# Altium footprint library TSSOP16-0.65-5X4.4MM_2021-09-21.PcbLib: 1 footprints
Each footprint in its own frame and in the unit in brackets; x right, y up, seen from the top. Pads: shape width x height; smd on the part's side, far side on the other; paste and mask are expansions set on the pad; w line width, h text height; cw(c..) or ccw(c..) is an arc to the next point about the centre after c.
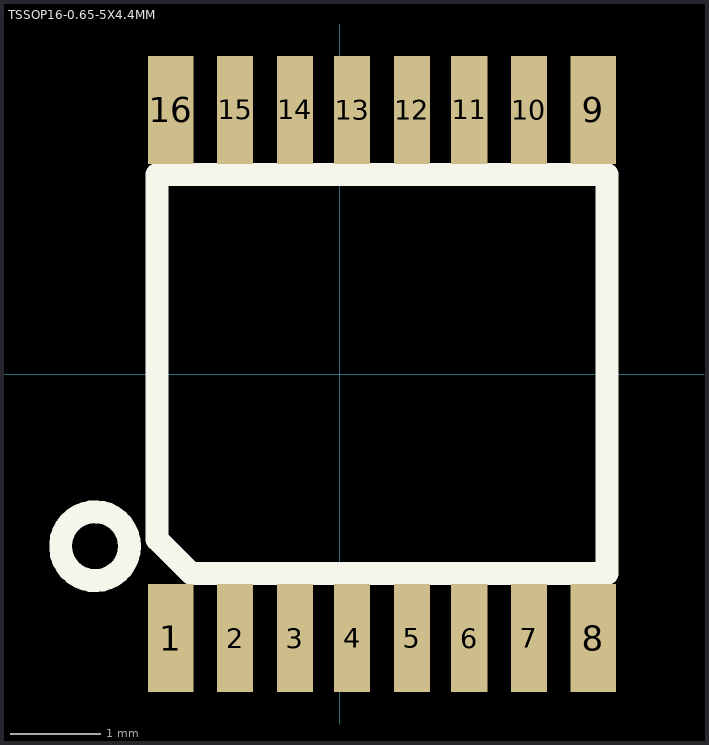
[diagram p0: the footprint, top view; thin cyan lines are the x and y axes]

## TSSOP16-0.65-5X4.4MM [mil]
pads (16):
  rect 19.7x47.2 smd: 1(-73.5,-115) 8(110.5,-115) 9(110.5,115) 16(-73.5,115)
  rect 15.7x47.2 smd: 2(-45.5,-115) 3(-19.5,-115) 4(5.5,-115) 5(31.5,-115) 6(56.5,-115) 7(82.5,-115) 10(82.5,115) 11(56.5,115) 12(31.5,115) 13(5.5,115) 14(-19.5,115) 15(-45.5,115)
Top Overlay:
  circle w10: c-106.5,-75 r15
  lines w10: -79.5,-72 -64.5,-87 116.5,-87 116.5,87 -79.5,87 -79.5,-72